# Altium schematic symbol library AMR_Ref.SCHLIB: 37 symbols
Pins are listed as number, name and electrical type; pins without a type are passive.

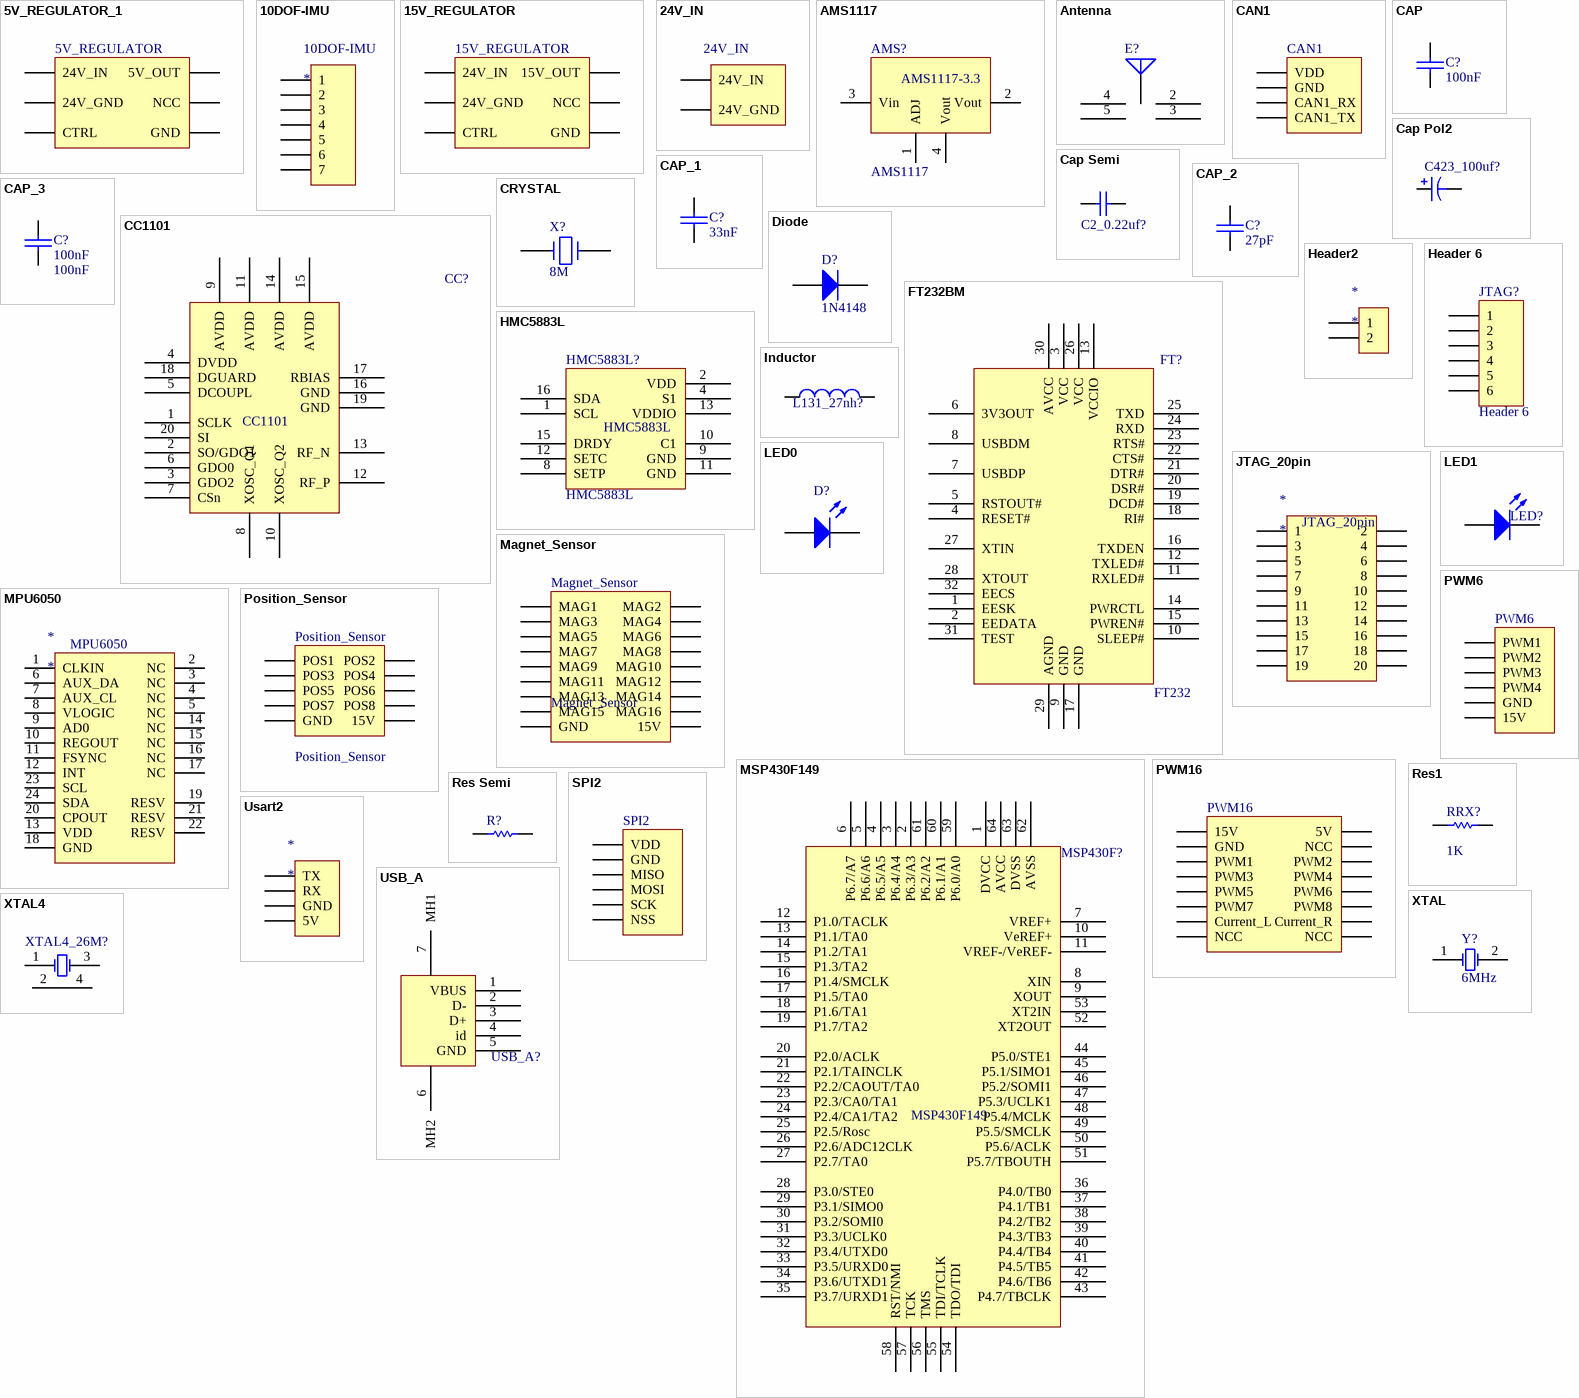
[diagram p0: symbols 5V_REGULATOR_1 to XTAL4]

## 5V_REGULATOR_1
designator 5V_REGULATOR, comment 5V_REGULATOR  (value not drawn)
Header, 6-Pin; LatestRevisionDate: 17-Jul-2002; LatestRevisionNote: Re-released for DXP Platform.; Publisher: Altium Limited
footprint URA
pins: 1 24V_GND, 2 24V_IN, 3 5V_OUT, 4 NCC, 5 GND, 6 CTRL

## 10DOF-IMU
designator 10DOF-IMU
pins: 1, 2, 3, 4, 5, 6, 7

## 15V_REGULATOR
designator 15V_REGULATOR  (value not drawn)
Header, 6-Pin; LatestRevisionDate: 17-Jul-2002; LatestRevisionNote: Re-released for DXP Platform.; Publisher: Altium Limited
footprint URA
pins: 1 24V_GND, 2 24V_IN, 3 15V_OUT, 4 NCC, 5 GND, 6 CTRL

## 24V_IN
designator 24V_IN  (value not drawn)
pins: 1 24V_IN, 2 24V_GND

## AMS1117
designator AMS?
footprint AMS1117-3.3
pins: 1 ADJ, 2 Vout, 3 Vin, 4 Vout
text: AMS1117-3.3

## Antenna
designator E?  (value not drawn)
Generic Antenna; Published: 24-Mar-1999; LatestRevisionDate: 17-Jul-2002; LatestRevisionNote: Re-released for DXP Platform.; PackageReference: PIN1; Publisher: Altium Limited
footprint PIN1 (Generic Antenna; 1 Lead)
footprint antenna
pins: 1 A, 2, 3, 4, 5

## CAN1
designator CAN1  (value not drawn)
Header, 6-Pin; LatestRevisionDate: 17-Jul-2002; LatestRevisionNote: Re-released for DXP Platform.; Publisher: Altium Limited
footprint JTAG
pins: 1 VDD, 2 GND, 3 CAN1_RX, 4 CAN1_TX

## CAP
designator C?, comment 100nF
Capacitor; value: 100nF
footprint 0805R
footprint 0805R
footprint cap0402
footprint 1608[0603] (Chip Capacitor, Body 1.6x0.8mm, IPC High Density)
pins: 1, 2

## Cap Pol2
designator C423_100uf?  (value not drawn)
Polarized Capacitor (Axial); Value: 100uF; Published: 8-Jun-2000; LatestRevisionDate: 17-Jul-2002; LatestRevisionNote: Re-released for DXP Platform.; PackageReference: POLAR0.8; Publisher: Altium Limited
footprint POLAR0.8 (Polarized Capacitor (Axial); 2 Leads)
footprint CAPPA14.05-10.5x6.3 (Capacitor, Axial, Polarised; Body 10.5 x 6.3 mm (LxDia. max), Lead Dia. 0.6 mm (typ))
footprint CAPPA23.6-18.5x8.5 (Capacitor, Axial, Polarised; Body 18.5 x 8.5 mm (LxDia. max), Lead Dia. 0.8 mm (typ))
footprint CAPPA31.6-26.5x12.5 (Capacitor, Axial, Polarised; Body 26.5 x 12.5 mm (LxDia. max), Lead Dia. 0.8 mm (typ))
footprint CAPPA35.6-30.5x18.5 (Capacitor, Axial, Polarised; Body 30.5 x 18.5 mm (LxDia. max), Lead Dia. 0.8 mm (typ))
footprint CAPPA46.1-41x21.5 (Capacitor, Axial, Polarised; Body 41 x 21.5 mm (LxDia. max), Lead Dia. 0.8 mm (typ))
simulation model CAP (Capacitor)
signal-integrity model Cap Pol
footprint 3528C/B
pins: 1, 2
1 alternate drawing of the same symbol

## Cap Semi
designator C2_0.22uf?  (value not drawn)
Capacitor (Semiconductor SIM Model); Value: 0.22uF; Published: 8-Jun-2000; LatestRevisionDate: 17-Jul-2002; LatestRevisionNote: Re-released for DXP Platform.; PackageReference: C1206; Publisher: Altium Limited
footprint C1206 (Chip Capacitor; Body 3.2 x 1.6 mm (LxW typ))
footprint 0402 (Chip Capacitor; Body 1.0 x 0.5 mm (LxW typ))
footprint 1310[0504] (Chip Capacitor; Body 1.2 x 1.0 mm (LxW typ))
footprint 1608[0603] (Chip Capacitor; Body 1.6 x 0.8 mm (LxW typ))
footprint C1210 (Chip Capacitor; Body 3.2 x 2.5 mm (LxW typ))
simulation model CAP (Semiconductor Capacitor)
signal-integrity model Cap Semi
pins: 1, 2

## CAP_1
designator C?, comment 33nF
Capacitor; value: 33nF
footprint cap0402
footprint RAD-0.3
footprint 1608[0603] (Chip Capacitor, Body 1.6x0.8mm, IPC High Density)
pins: 1, 2

## CAP_2
designator C?, comment 27pF
Capacitor; value: 27pF
footprint 0805R
footprint cap0402
footprint 1608[0603] (Chip Capacitor, Body 1.6x0.8mm, IPC High Density)
pins: 1, 2

## CAP_3
designator C?, comment 100nF
Capacitor; value: 100nF
footprint 0805R
footprint 0805R
footprint cap0402
footprint 1608[0603] (Chip Capacitor, Body 1.6x0.8mm, IPC High Density)
pins: 1, 2

## CC1101
designator CC?  (value not drawn)
footprint CC1101
pins: 1 SCLK, 2 SO/GDO1, 3 GDO2, 4 DVDD, 5 DCOUPL, 6 GDO0, 7 CSn, 8 XOSC_Q1, 9 AVDD, 10 XOSC_Q2, 11 AVDD, 12 RF_P, 13 RF_N, 14 AVDD, 15 AVDD, 16 GND, 17 RBIAS, 18 DGUARD, 19 GND, 20 SI

## CRYSTAL
designator X?, comment 8M
Crystal
footprint xtal_0
footprint XTAL4
footprint XTAL
footprint xtal8m
pins: 1, 2
2 alternate drawings of the same symbol

## Diode
designator D?, comment 1N4148
Default Diode; Published: 8-Jun-2000; LatestRevisionDate: 17-Jul-2002; LatestRevisionNote: Re-released for DXP Platform.; PackageDocument: Sep-1996; PackageReference: SMC; Publisher: Altium Limited; Code_JEDEC: DO-214-AB
footprint D1206
simulation model DIODE (Diode)
signal-integrity model Diode
footprint 1206D
pins: 1 A, 2 K

## FT232BM
designator FT?, comment FT232
footprint FT232BM
footprint FT232BM
footprint FT232
footprint FT232
pins: 1 EESK, 2 EEDATA, 3 VCC, 4 RESET#, 5 RSTOUT#, 6 3V3OUT, 7 USBDP, 8 USBDM, 9 GND, 10 SLEEP#, 11 RXLED#, 12 TXLED#, 13 VCCIO, 14 PWRCTL, 15 PWREN#, 16 TXDEN, 17 GND, 18 RI#, 19 DCD#, 20 DSR#, 21 DTR#, 22 CTS#, 23 RTS#, 24 RXD, 25 TXD, 26 VCC, 27 XTIN, 28 XTOUT, 29 AGND, 30 AVCC, 31 TEST, 32 EECS

## Header2
designator *
pins: 1, 2

## Header 6
designator JTAG?
Header, 6-Pin; LatestRevisionDate: 17-Jul-2002; LatestRevisionNote: Re-released for DXP Platform.; Publisher: Altium Limited
footprint JTAG
pins: 1, 2, 3, 4, 5, 6

## HMC5883L
designator HMC5883L?
footprint HMC5883L
pins: 1 SCL, 2 VDD, 4 S1, 8 SETP, 9 GND, 10 C1, 11 GND, 12 SETC, 13 VDDIO, 15 DRDY, 16 SDA

## Inductor
designator L131_27nh?  (value not drawn)
Code_IEC: 1005; Value: 27nH; Published: 8-Jun-2000; LatestRevisionDate: 17-Jul-2002; LatestRevisionNote: Re-released for DXP Platform.; PackageReference: 0402-A; Publisher: Altium Limited; Code_JEITA: 0402
footprint 0402-A (Chip Inductor; Body 1 x 0.5 mm (LxW typ))
footprint L0603 (Chip Inductor; Body 1.6 x 0.8 mm (LxW typ))
footprint 2012_Chip (2012 Chip; Chip Inductor; Body 2.0 x 1.2 mm (LxW typ))
footprint 2029 (Chip Inductor; Body 2 x 1.2 mm (LxW typ))
footprint 3261 (3216 Chip; Chip Inductor; Body 3.2 x 1.6 mm (LxW typ))
footprint 4564_Chip (4564 Chip; Chip Inductor; Body 4.5 x 6.4 mm (LxW typ))
simulation model INDUCTOR (Inductor)
signal-integrity model Inductor
pins: 1, 2

## JTAG_20pin
designator *
pins: 1, 2, 3, 4, 5, 6, 7, 8, 9, 10, 11, 12, 13, 14, 15, 16, 17, 18, 19, 20

## LED0
designator D?, comment LED3  (value not drawn)
Typical INFRARED GaAs LED; Published: 8-Jun-2000; LatestRevisionDate: 08-Jul-2005; LatestRevisionNote: Mech Layer 1 removed.; PackageReference: LED-0; Publisher: Altium Limited; PackageDescription: LED; 2 Leads
footprint LED-0 (LED; 2 Leads)
simulation model LED0 (Diode)
footprint LED
pins: 1 A, 2 K

## LED1
designator LED?  (value not drawn)
Typical RED GaAs LED; Published: 8-Jun-2000; Publisher: Altium Limited; LatestRevisionDate: 08-Jul-2005; LatestRevisionNote: Mech Layer 1 removed.; PackageReference: LED-1
footprint LED-1 (Typical RED GaAs LED; 2 Leads)
simulation model LED1 (Diode)
footprint LED
pins: 1 A, 2 K

## Magnet_Sensor
designator Magnet_Sensor
Header, 6-Pin; LatestRevisionDate: 17-Jul-2002; LatestRevisionNote: Re-released for DXP Platform.; Publisher: Altium Limited
footprint JTAG
pins: 1 MAG1, 2 MAG2, 3 MAG3, 4 MAG4, 5 MAG5, 6 MAG6, 7 MAG7, 8 MAG8, 9 MAG9, 10 MAG10, 11 MAG11, 12 MAG12, 13 MAG13, 14 MAG14, 15 MAG15, 16 MAG16, 17 GND, 18 15V

## MPU6050
designator *
pins: 1 CLKIN, 2 NC, 3 NC, 4 NC, 5 NC, 6 AUX_DA, 7 AUX_CL, 8 VLOGIC, 9 AD0, 10 REGOUT, 11 FSYNC, 12 INT, 13 VDD, 14 NC, 15 NC, 16 NC, 17 NC, 18 GND, 19 RESV, 20 CPOUT, 21 RESV, 22 RESV, 23 SCL, 24 SDA

## MSP430F149
designator MSP430F?  (value not drawn)
footprint MSP430F149
pins: 1 DVCC, 2 P6.3/A3, 3 P6.4/A4, 4 P6.5/A5, 5 P6.6/A6, 6 P6.7/A7, 7 VREF+, 8 XIN, 9 XOUT, 10 VeREF+, 11 VREF-/VeREF-, 12 P1.0/TACLK, 13 P1.1/TA0, 14 P1.2/TA1, 15 P1.3/TA2, 16 P1.4/SMCLK, 17 P1.5/TA0, 18 P1.6/TA1, 19 P1.7/TA2, 20 P2.0/ACLK, 21 P2.1/TAINCLK, 22 P2.2/CAOUT/TA0, 23 P2.3/CA0/TA1, 24 P2.4/CA1/TA2, 25 P2.5/Rosc, 26 P2.6/ADC12CLK, 27 P2.7/TA0, 28 P3.0/STE0, 29 P3.1/SIMO0, 30 P3.2/SOMI0, 31 P3.3/UCLK0, 32 P3.4/UTXD0, 33 P3.5/URXD0, 34 P3.6/UTXD1, 35 P3.7/URXD1, 36 P4.0/TB0, 37 P4.1/TB1, 38 P4.2/TB2, 39 P4.3/TB3, 40 P4.4/TB4, 41 P4.5/TB5, 42 P4.6/TB6, 43 P4.7/TBCLK, 44 P5.0/STE1, 45 P5.1/SIMO1, 46 P5.2/SOMI1, 47 P5.3/UCLK1, 48 P5.4/MCLK, 49 P5.5/SMCLK, 50 P5.6/ACLK, 51 P5.7/TBOUTH, 52 XT2OUT, 53 XT2IN, 54 TDO/TDI, 55 TDI/TCLK, 56 TMS, 57 TCK, 58 RST/NMI, 59 P6.0/A0, 60 P6.1/A1, 61 P6.2/A2, 62 AVSS, 63 DVSS, 64 AVCC

## Position_Sensor
designator Position_Sensor
Header, 6-Pin; LatestRevisionDate: 17-Jul-2002; LatestRevisionNote: Re-released for DXP Platform.; Publisher: Altium Limited
footprint JTAG
pins: 1 POS1, 2 POS2, 3 POS3, 4 POS4, 5 POS5, 6 POS6, 7 POS7, 8 POS8, 9 GND, 10 15V

## PWM6
designator PWM6, comment Header 6  (value not drawn)
Header, 6-Pin; LatestRevisionDate: 17-Jul-2002; LatestRevisionNote: Re-released for DXP Platform.; Publisher: Altium Limited
footprint JTAG
pins: 1 PWM1, 2 PWM2, 3 PWM3, 4 PWM4, 5 GND, 6 15V

## PWM16
designator PWM16  (value not drawn)
Header, 6-Pin; LatestRevisionDate: 17-Jul-2002; LatestRevisionNote: Re-released for DXP Platform.; Publisher: Altium Limited
footprint JTAG
pins: 1 15V, 2 5V, 3 GND, 4 NCC, 5 PWM1, 6 PWM2, 7 PWM3, 8 PWM4, 9 PWM5, 10 PWM6, 11 PWM7, 12 PWM8, 13 Current_L, 14 Current_R, 15 NCC, 16 NCC

## Res1
designator RRX?  value 1K  (hidden comment: Res1)
Resistor; Published: 8-Jun-2000; LatestRevisionDate: 17-Jul-2002; LatestRevisionNote: Re-released for DXP Platform.; PackageReference: AXIAL-0.3; Publisher: Altium Limited; PackageDescription: Axial Device, Thru-Hole; 2 Leads; 0.3 in Pin Spacing
footprint AXIAL-0.3 (Axial Device, Thru-Hole; 2 Leads; 0.3 in Pin Spacing)
simulation model RESISTOR (Resistor)
signal-integrity model Res
footprint 1608[0603] (Chip Capacitor, Body 1.6x0.8mm, IPC High Density)
pins: 1, 2

## Res Semi
designator R?  (value not drawn)
Semiconductor Resistor; Value: 10K; Published: 8-Jun-2000; LatestRevisionDate: 17-Jul-2002; LatestRevisionNote: Re-released for DXP Platform.; PackageReference: AXIAL-0.5; Publisher: Altium Limited
footprint AXIAL-0.5 (Semiconductor Resistor; 2 Leads)
footprint 1005[0402] (Chip Resistor; Body 1.1 x 0.5 mm (LxW typ))
footprint 1608[0603] (Chip Resistor; Body 1.6 x 0.8 mm (LxW typ))
footprint 2012[0805] (Chip Resistor; Body 2.0 x 1.3 mm (LxW typ))
footprint 3216[1206] (Chip Resistor; Body 3.2 x 1.6 mm (LxW typ))
simulation model RES (Semiconductor Resistor)
signal-integrity model Res Semi
footprint 1608[0603] (Chip Capacitor, Body 1.6x0.8mm, IPC High Density)
pins: 1, 2

## SPI2
designator SPI2  (value not drawn)
Header, 6-Pin; LatestRevisionDate: 17-Jul-2002; LatestRevisionNote: Re-released for DXP Platform.; Publisher: Altium Limited
footprint JTAG
pins: 1 VDD, 2 GND, 3 MISO, 4 MOSI, 5 SCK, 6 NSS

## Usart2
designator *
pins: 1 TX, 2 RX, 3 GND, 4 5V

## USB_A
designator USB_A?  (value not drawn)
footprint miniUSB
footprint Micro_USB
footprint Micro_USB
pins: 1 VBUS, 2 D-, 3 D+, 4 id, 5 GND, 6 MH2, 7 MH1

## XTAL
designator Y?, comment 6MHz
Crystal Oscillator; Published: *; Publisher: *; Manufacturer: *; Class: *; SubClass: *
footprint 晶振
footprint XTAL
footprint XTAL4
footprint xtal-6M
footprint xtal-6M
footprint xtal-6M
footprint xtal
pins: 1 OSC1, 2 OSC2

## XTAL4
designator XTAL4_26M?  (value not drawn)
footprint XTAL4
footprint XTAL4
pins: 1 OSC1, 2 OSC1, 3 OSC2, 4 OSC1